# Altium schematic symbol library SCH - POWER - LINEAR VREG - TI TPS7A39.SCHLIB: 1 symbol
Pins are listed as number, name and electrical type; pins without a type are passive.

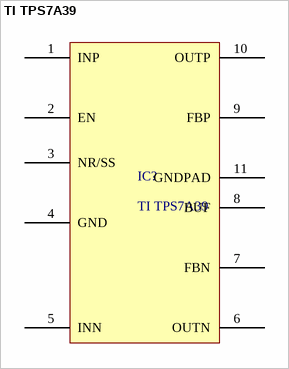
[diagram p0: symbol TI TPS7A39]

## TI TPS7A39
designator IC?
Dual, 150-mA, Wide VIN Positive and Negative LDO Voltage Regulator
pins: 1 INP (power), 2 EN (power), 3 NR/SS (power), 4 GND (power), 5 INN (power), 6 OUTN (power), 7 FBN (power), 8 BUF (power), 9 FBP (power), 10 OUTP (power), 11 GNDPAD (power)